# Altium footprint library EG1218.PcbLib: 1 footprints
Each footprint in its own frame and in the unit in brackets; x right, y up, seen from the top. Pads: shape width x height; smd on the part's side, far side on the other; paste and mask are expansions set on the pad; w line width, h text height; cw(c..) or ccw(c..) is an arc to the next point about the centre after c.
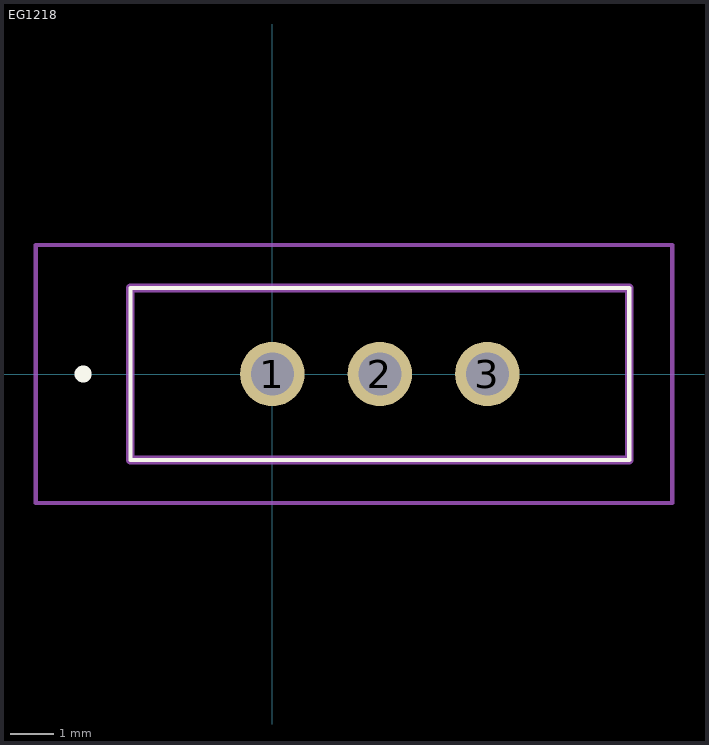
[diagram p0: the footprint, top view; thin cyan lines are the x and y axes]

## EG1218 [mm]
pads (3):
  round 1.5 hole 1: 1(0,0) 2(2.5,0) 3(5,0)
Top Overlay:
  lines w0.1: -3.3,-2 8.3,-2 8.3,2 -3.3,2 -3.3,-2
  lines w0.2: -4.5,0 -4.5,0 ; -4.5,0 ccw(c-4.4,0) -4.3,0 ; -4.5,0 cw(c-4.4,0) -4.3,0 ; -4.3,0 -4.3,0
Mechanical 15:
  lines w0.2: -3.3,-2 8.3,-2 8.3,2 -3.3,2 -3.3,-2
Mechanical 20:
  lines w0.1: -5.5,-3 9.3,-3 9.3,3 -5.5,3 -5.5,-3
3D body "EG1218.stp": height 5.8, standoff -4.65, extent -10,-3.376 10,3.376